# Altium footprint library Omron Electronics.PcbLib: 1 footprints
Each footprint in its own frame and in the unit in brackets; x right, y up, seen from the top. Pads: shape width x height; smd on the part's side, far side on the other; paste and mask are expansions set on the pad; w line width, h text height; cw(c..) or ccw(c..) is an arc to the next point about the centre after c.
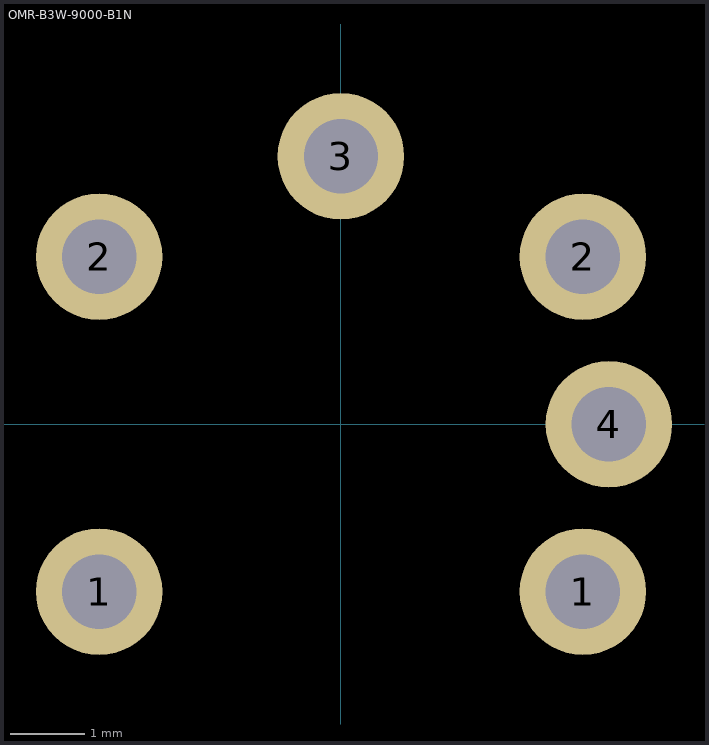
[diagram p0: the footprint, top view; thin cyan lines are the x and y axes]

## OMR-B3W-9000-B1N [mm] "Tactile Switch SPST-NO Top Actuated Through Hole"
height 11
pads (6):
  round 1.7 hole 1: 1(-3.25,-2.25) 1(3.25,-2.25) 2(-3.25,2.25) 2(3.25,2.25) 3(0,3.6) 4(3.6,0)